# Altium schematic symbol library SCH - DIODES - CITIZEN CL-340T-SD-T.SCHLIB: 1 symbol
Pins are listed as number, name and electrical type; pins without a type are passive.

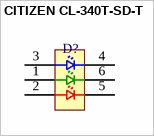
[diagram p0: symbol CITIZEN CL-340T-SD-T]

## CITIZEN CL-340T-SD-T
designator D?
pins: 1 A2, 2 A3, 3 A1, 4 C1, 5 C3, 6 C2